# EAGLE library part BERGSTAK-100POS (library lupa300-components)
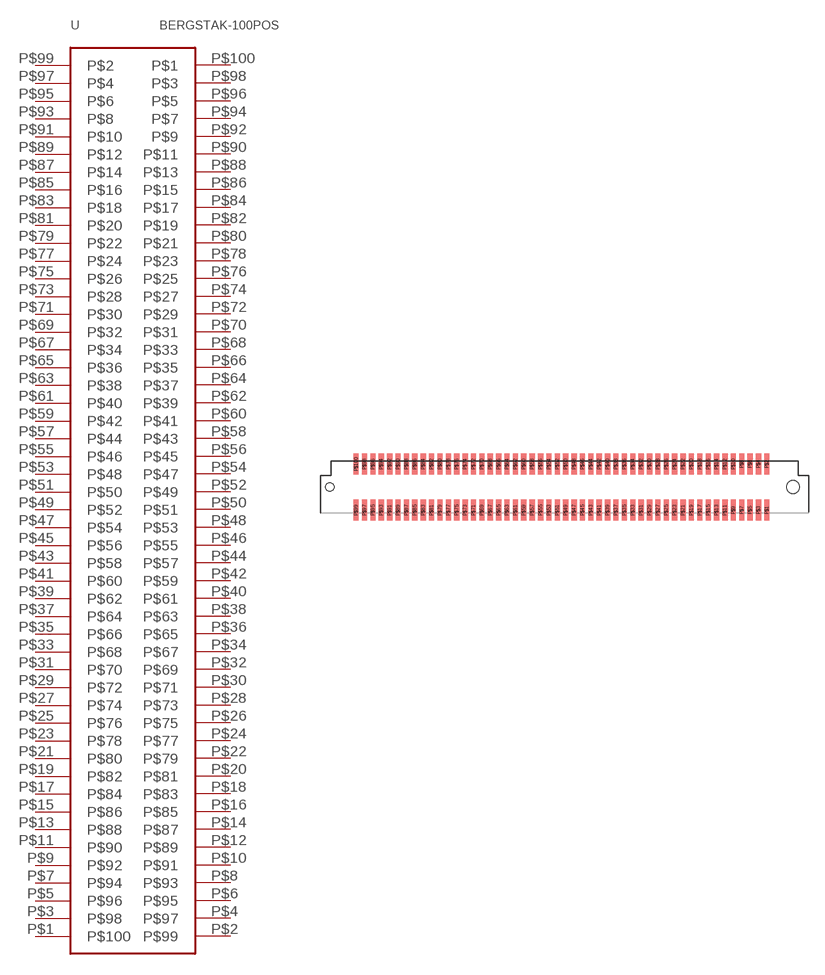
[diagram p0: symbol with the pads of BERG100POS; footprint BERG100POS]

Designator prefix -

## BERGSTAK-100POS  [BERG100POS]
P$1  P$100
P$2  P$99
P$3  P$98
P$4  P$97
P$5  P$96
P$6  P$95
P$7  P$94
P$8  P$93
P$9  P$92
P$10  P$91
P$11  P$90
P$12  P$89
P$13  P$88
P$14  P$87
P$15  P$86
P$16  P$85
P$17  P$84
P$18  P$83
P$19  P$82
P$20  P$81
P$21  P$80
P$22  P$79
P$23  P$78
P$24  P$77
P$25  P$76
P$26  P$75
P$27  P$74
P$28  P$73
P$29  P$72
P$30  P$71
P$31  P$70
P$32  P$69
P$33  P$68
P$34  P$67
P$35  P$66
P$36  P$65
P$37  P$64
P$38  P$63
P$39  P$62
P$40  P$61
P$41  P$60
P$42  P$59
P$43  P$58
P$44  P$57
P$45  P$56
P$46  P$55
P$47  P$54
P$48  P$53
P$49  P$52
P$50  P$51
P$51  P$50
P$52  P$49
P$53  P$48
P$54  P$47
P$55  P$46
P$56  P$45
P$57  P$44
P$58  P$43
P$59  P$42
P$60  P$41
P$61  P$40
P$62  P$39
P$63  P$38
P$64  P$37
P$65  P$36
P$66  P$35
P$67  P$34
P$68  P$33
P$69  P$32
P$70  P$31
P$71  P$30
P$72  P$29
P$73  P$28
P$74  P$27
P$75  P$26
P$76  P$25
P$77  P$24
P$78  P$23
P$79  P$22
P$80  P$21
P$81  P$20
P$82  P$19
P$83  P$18
P$84  P$17
P$85  P$16
P$86  P$15
P$87  P$14
P$88  P$13
P$89  P$12
P$90  P$11
P$91  P$10
P$92  P$9
P$93  P$8
P$94  P$7
P$95  P$6
P$96  P$5
P$97  P$4
P$98  P$3
P$99  P$2
P$100  P$1

## Footprint BERG100POS (pad centres in mm)
smd 0.5 x 2: P$1 0,1; P$2 0,5.4; P$3 -0.8,1; P$4 -0.8,5.4; P$5 -1.6,1; P$6 -1.6,5.4; P$7 -2.4,1; P$8 -2.4,5.4; P$9 -3.2,1; P$10 -3.2,5.4; P$11 -4,1; P$12 -4,5.4; P$13 -4.8,1; P$14 -4.8,5.4; P$15 -5.6,1; P$16 -5.6,5.4; P$17 -6.4,1; P$18 -6.4,5.4; P$19 -7.2,1; P$20 -7.2,5.4; P$21 -8,1; P$22 -8,5.4; P$23 -8.8,1; P$24 -8.8,5.4; P$25 -9.6,1; P$26 -9.6,5.4; P$27 -10.4,1; P$28 -10.4,5.4; P$29 -11.2,1; P$30 -11.2,5.4; P$31 -12,1; P$32 -12,5.4; P$33 -12.8,1; P$34 -12.8,5.4; P$35 -13.6,1; P$36 -13.6,5.4; P$37 -14.4,1; P$38 -14.4,5.4; P$39 -15.2,1; P$40 -15.2,5.4; P$41 -16,1; P$42 -16,5.4; P$43 -16.8,1; P$44 -16.8,5.4; P$45 -17.6,1; P$46 -17.6,5.4; P$47 -18.4,1; P$48 -18.4,5.4; P$49 -19.2,1; P$50 -19.2,5.4; P$51 -20,1; P$52 -20,5.4; P$53 -20.8,1; P$54 -20.8,5.4; P$55 -21.6,1; P$56 -21.6,5.4; P$57 -22.4,1; P$58 -22.4,5.4; P$59 -23.2,1; P$60 -23.2,5.4; P$61 -24,1; P$62 -24,5.4; P$63 -24.8,1; P$64 -24.8,5.4; P$65 -25.6,1; P$66 -25.6,5.4; P$67 -26.4,1; P$68 -26.4,5.4; P$69 -27.2,1; P$70 -27.2,5.4; P$71 -28,1; P$72 -28,5.4; P$73 -28.8,1; P$74 -28.8,5.4; P$75 -29.6,1; P$76 -29.6,5.4; P$77 -30.4,1; P$78 -30.4,5.4; P$79 -31.2,1; P$80 -31.2,5.4; P$81 -32,1; P$82 -32,5.4; P$83 -32.8,1; P$84 -32.8,5.4; P$85 -33.6,1; P$86 -33.6,5.4; P$87 -34.4,1; P$88 -34.4,5.4; P$89 -35.2,1; P$90 -35.2,5.4; P$91 -36,1; P$92 -36,5.4; P$93 -36.8,1; P$94 -36.8,5.4; P$95 -37.6,1; P$96 -37.6,5.4; P$97 -38.4,1; P$98 -38.4,5.4; P$99 -39.2,1; P$100 -39.2,5.4
hole 0.8 at -41.7,3.2
hole 1.2 at 2.5,3.2